# Altium integrated library TI Power Management Power Modules.IntLib: 831 symbols (part 40 of 44)
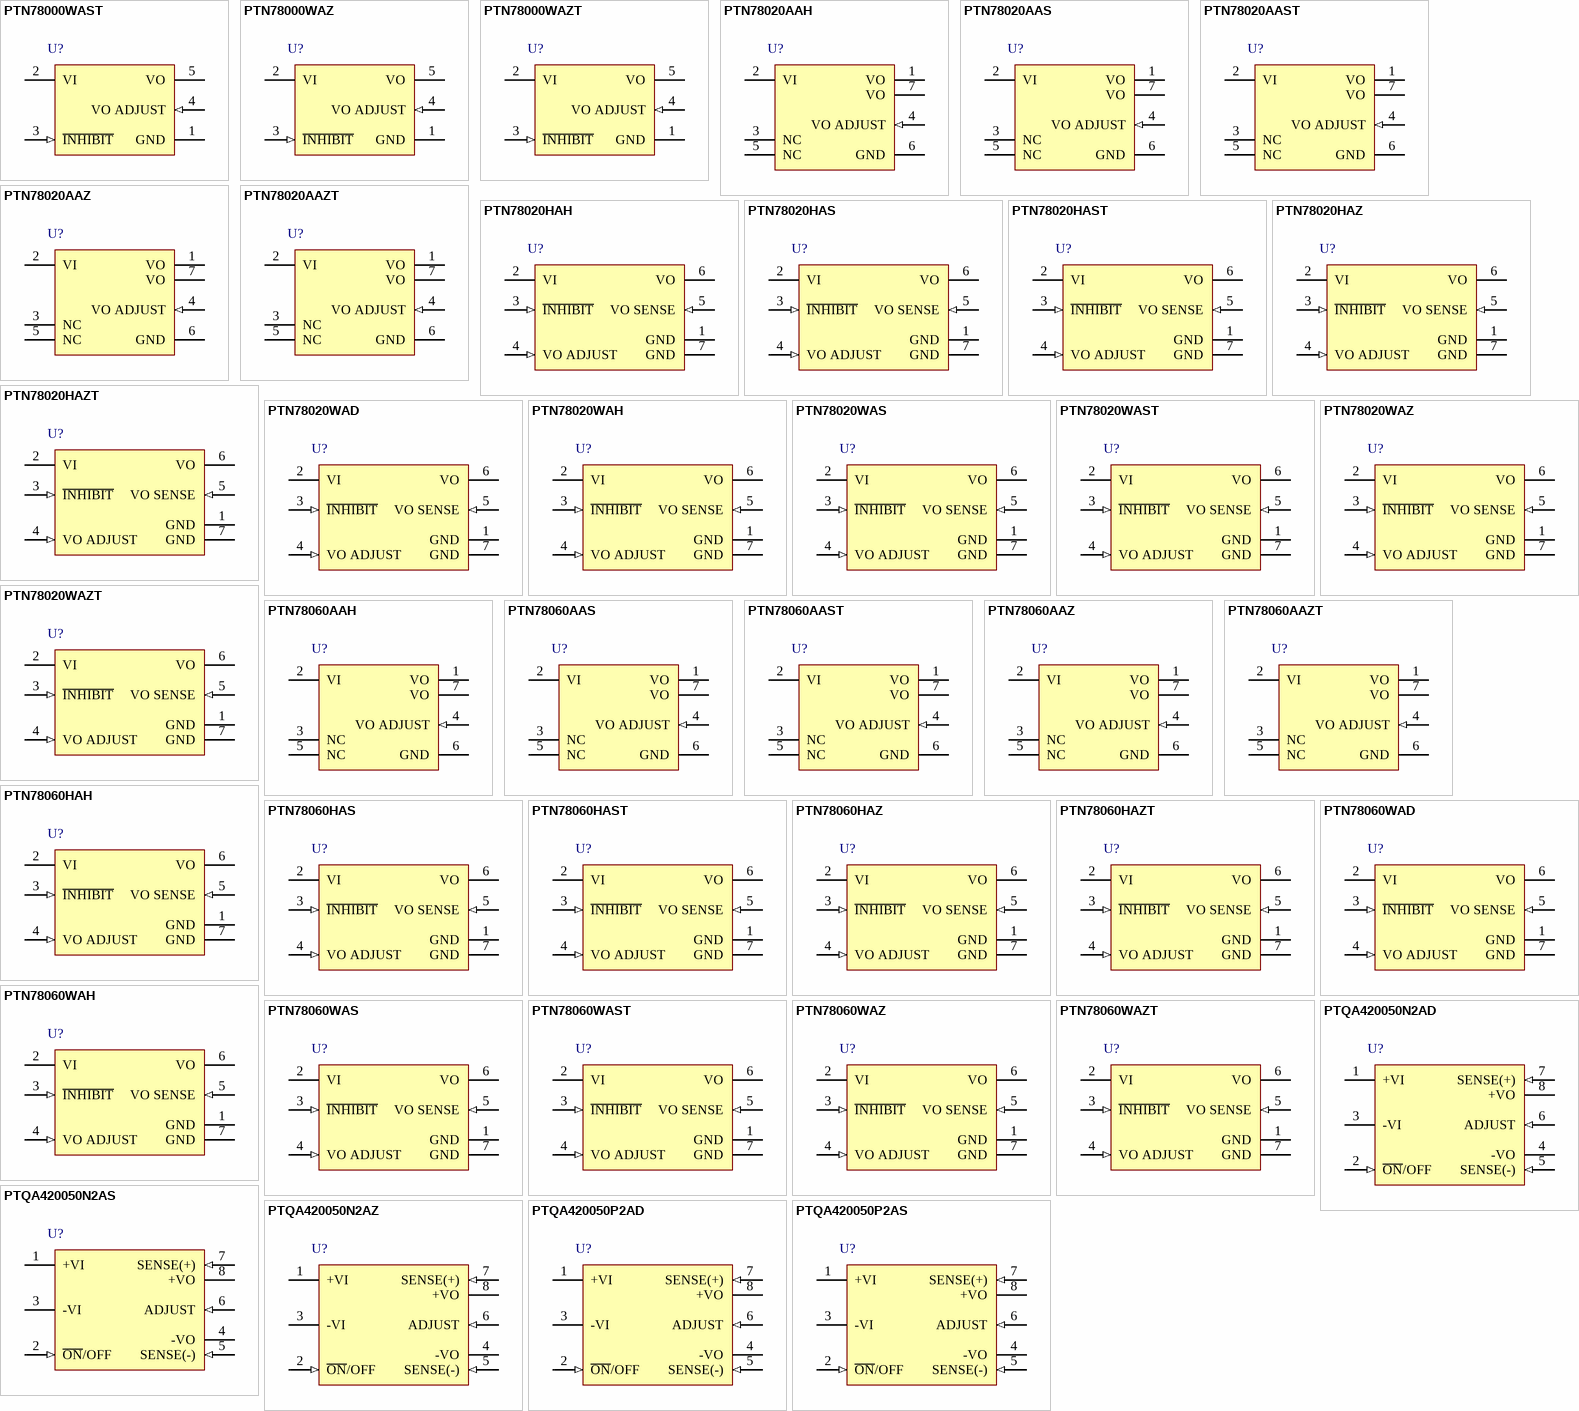
[diagram p62: symbols PTN78000WAST to PTQA420050P2AS]

## PTN78000WAZT
designator U?
1.5 A, Wide-Input Adjustable Switching Regulator, -40 to 85 degC, 5-pin Module (EUT5), Pb-Free (RoHS); Manufacturer: Texas Instruments; PartNumber: PTN78000WAZT; Iout(Max)(A): 1.5; Regulated Outputs(#): 1; SubFamily: Non-Isolated POL; Vin(Max)(V): 36; Vin(Min)(V): 7; VO Adjustable: TRUE; Vout(Max)(V): 12.6; Vout(Min)(V): 2.5; DatasheetVersion: SLTS230C; PackageVersion: 4204991-2/C; PackageReference: EUT5; PackageDescription: 5-Pin Plastic Special Shape, Body 12.57 x 18.92 mm; Supplier 1: Digi-Key; Supplier Part Number 1: 296-32210-2-ND; Supplier 2: Digi-Key; Supplier Part Number 2: 296-32210-1-ND; Supplier 3: Digi-Key; Supplier Part Number 3: 296-32210-6-ND; Supplier 4: Newark; Supplier Part Number 4: 37K0763; Supplier 5: Mouser; Supplier Part Number 5: 595-PTN78000WAZT; Eco-Plan: Pb-Free (RoHS); Mounting Technology: Surface Mount; ComponentLink1Description: Manufacturer URL; ComponentLink1URL: http://www.ti.com/; ComponentLink2Description: Datasheet; ComponentLink2URL: http://www.ti.com/general/docs/lit/getliterature.tsp?genericPartNumber=PTN78000W&fileType=pdf; ComponentLink3Description: Package Specification; ComponentLink3URL: http://www.ti.com/lit/ml/mpds140b/mpds140b.pdf; ComponentLink4Description: URL Link1; ComponentLink4URL: Samples URL:http://www.ti.com/product/ptn78000w#samples
footprint TI-EUT5_V (Module, 5-Leads, Body 18.92x12.57 mm)
pins: 1 GND (power) "This is the common ground connection for the VI and VO power connections. It is also the 0 Vdc reference for the Inhibit and VO Adjust control inputs.", 2 VI (power) "The positive input voltage power node to the module, which is referenced to common GND.", 3 ~{INHIBIT} (in) "The Inhibit pin is an open-collector/drain active-low input that is referenced to GND. Applying a low-level ground signal to this input disables the module's output and turns off the output voltage. When the Inhibit control (See Datasheet)", 4 VO ADJUST (in) "A 1% resistor must be connected between this pin and GND (pin 1) to set the output voltage. If left open-circuit, the output voltage defaults to its minimum adjust value. The temperature stability of the resistor should be (See Datasheet)", 5 VO (power) "The regulated positive power output with respect to the GND node."

## PTN78020AAH
designator U?
4 A, Wide Input, Non-Isolated, Wide Negative Output Adjust Module, -40 to 85 degC, 7-pin Module (EUK7), Pb-Free (RoHS); Manufacturer: Texas Instruments; PartNumber: PTN78020AAH; Iout(Max)(A): 4; Regulated Outputs(#): 1; SubFamily: Non-Isolated POL; Vin(Max)(V): 29; Vin(Min)(V): 9; VO Adjustable: TRUE; Vout(Max)(V): -3; Vout(Min)(V): -15; DatasheetVersion: SLTS244A; PackageVersion: 4204986-2/C; PackageReference: EUK7; PackageDescription: 7-Pin Plastic Special Shape, Body 22.1 x 37.97 mm; Supplier 1: Digi-Key; Supplier Part Number 1: 296-20509-ND; Supplier 2: Newark; Supplier Part Number 2: 31K7224; Supplier 3: Mouser; Supplier Part Number 3: 595-PTN78020AAH; Eco-Plan: Pb-Free (RoHS); Mounting Technology: Through Hole; ComponentLink1Description: Manufacturer URL; ComponentLink1URL: http://www.ti.com/; ComponentLink2Description: Datasheet; ComponentLink2URL: http://www.ti.com/general/docs/lit/getliterature.tsp?genericPartNumber=PTN78020A&fileType=pdf; ComponentLink3Description: Package Specification; ComponentLink3URL: http://www.ti.com/litv/pdf/mpds185; ComponentLink4Description: URL Link1; ComponentLink4URL: Samples URL:http://www.ti.com/product/ptn78020a#samples
footprint TI-EUK7_V (Module, 7-Leads, Body 37.97x22.1mm)
pins: 1 VO (power) "The negative output voltage power connection. It is also the reference for the VO Adjust control input. For proper operation, pins 1 and 7 must be connected.", 2 VI (power) "proper operation, pins 1 and 7 must be connected. The positive input voltage power node to the module, which is referenced to common GND.", 3 NC "This pin is active and must be isolated from any electrical connection.", 4 VO ADJUST (in) "A 1% resistor must be connected between pin 4 and pin 7 to set the output voltage of the module lower than -3 V. If left open-circuit, the output voltage defaults to -3 V. The temperature stability of the resistor should be (See Datasheet)", 5 NC "This pin is active and must be isolated from any electrical connection.", 6 GND (power) "The common ground connection for VI and VO power connections.", 7 VO (power) "The negative output voltage power connection. It is also the reference for the VO Adjust control input. For proper operation, pins 1 and 7 must be connected."

## PTN78020AAS
designator U?
4 A, Wide Input, Non-Isolated, Wide Negative Output Adjust Module, -40 to 85 degC, 7-pin Module (EUL7); Manufacturer: Texas Instruments; PartNumber: PTN78020AAS; Eco-Plan: TBD; Iout(Max)(A): 4; Regulated Outputs(#): 1; SubFamily: Non-Isolated POL; Vin(Max)(V): 29; Vin(Min)(V): 9; VO Adjustable: TRUE; Vout(Max)(V): -3; Vout(Min)(V): -15; DatasheetVersion: SLTS244A; PackageVersion: 4204987-2/C; PackageReference: EUL7; PackageDescription: 7-Pin Plastic Special Shape, Body 22.1 x 37.97 mm; Supplier 1: Digi-Key; Supplier Part Number 1: 296-20510-ND; Supplier 2: Newark; Supplier Part Number 2: 31K7225; Supplier 3: Mouser; Supplier Part Number 3: 595-PTN78020AAS; Mounting Technology: Surface Mount; ComponentLink1Description: Manufacturer URL; ComponentLink1URL: http://www.ti.com/; ComponentLink2Description: Datasheet; ComponentLink2URL: http://www.ti.com/general/docs/lit/getliterature.tsp?genericPartNumber=PTN78020A&fileType=pdf; ComponentLink3Description: Package Specification; ComponentLink3URL: http://www.ti.com/lit/ml/mpds186/mpds186.pdf; ComponentLink4Description: URL Link1; ComponentLink4URL: Samples URL:http://www.ti.com/product/ptn78020a#samples
footprint TI-EUL7_V (Module, 7-Leads, Body 37.97x22.1mm)
pins: 1 VO (power) "The negative output voltage power connection. It is also the reference for the VO Adjust control input. For proper operation, pins 1 and 7 must be connected.", 2 VI (power) "proper operation, pins 1 and 7 must be connected. The positive input voltage power node to the module, which is referenced to common GND.", 3 NC "This pin is active and must be isolated from any electrical connection.", 4 VO ADJUST (in) "A 1% resistor must be connected between pin 4 and pin 7 to set the output voltage of the module lower than -3 V. If left open-circuit, the output voltage defaults to -3 V. The temperature stability of the resistor should be (See Datasheet)", 5 NC "This pin is active and must be isolated from any electrical connection.", 6 GND (power) "The common ground connection for VI and VO power connections.", 7 VO (power) "The negative output voltage power connection. It is also the reference for the VO Adjust control input. For proper operation, pins 1 and 7 must be connected."

## PTN78020AAST
designator U?
4 A, Wide Input, Non-Isolated, Wide Negative Output Adjust Module, -40 to 85 degC, 7-pin Module (EUL7); Manufacturer: Texas Instruments; PartNumber: PTN78020AAST; Eco-Plan: TBD; Iout(Max)(A): 4; Regulated Outputs(#): 1; SubFamily: Non-Isolated POL; Vin(Max)(V): 29; Vin(Min)(V): 9; VO Adjustable: TRUE; Vout(Max)(V): -3; Vout(Min)(V): -15; DatasheetVersion: SLTS244A; PackageVersion: 4204987-2/C; PackageReference: EUL7; PackageDescription: 7-Pin Plastic Special Shape, Body 22.1 x 37.97 mm; Supplier 1: Digi-Key; Supplier Part Number 1: PTN78020AAST-ND; Supplier 2: Newark; Supplier Part Number 2: 31K7226; Supplier 3: Mouser; Supplier Part Number 3: 595-PTN78020AAST; Mounting Technology: Surface Mount; ComponentLink1Description: Manufacturer URL; ComponentLink1URL: http://www.ti.com/; ComponentLink2Description: Datasheet; ComponentLink2URL: http://www.ti.com/general/docs/lit/getliterature.tsp?genericPartNumber=PTN78020A&fileType=pdf; ComponentLink3Description: Package Specification; ComponentLink3URL: http://www.ti.com/lit/ml/mpds186/mpds186.pdf; ComponentLink4Description: URL Link1; ComponentLink4URL: Samples URL:http://www.ti.com/product/ptn78020a#samples
footprint TI-EUL7_V (Module, 7-Leads, Body 37.97x22.1mm)
pins: 1 VO (power) "The negative output voltage power connection. It is also the reference for the VO Adjust control input. For proper operation, pins 1 and 7 must be connected.", 2 VI (power) "proper operation, pins 1 and 7 must be connected. The positive input voltage power node to the module, which is referenced to common GND.", 3 NC "This pin is active and must be isolated from any electrical connection.", 4 VO ADJUST (in) "A 1% resistor must be connected between pin 4 and pin 7 to set the output voltage of the module lower than -3 V. If left open-circuit, the output voltage defaults to -3 V. The temperature stability of the resistor should be (See Datasheet)", 5 NC "This pin is active and must be isolated from any electrical connection.", 6 GND (power) "The common ground connection for VI and VO power connections.", 7 VO (power) "The negative output voltage power connection. It is also the reference for the VO Adjust control input. For proper operation, pins 1 and 7 must be connected."

## PTN78020AAZ
designator U?
4 A, Wide Input, Non-Isolated, Wide Negative Output Adjust Module, -40 to 85 degC, 7-pin Module (EUL7), Pb-Free (RoHS); Manufacturer: Texas Instruments; PartNumber: PTN78020AAZ; Iout(Max)(A): 4; Regulated Outputs(#): 1; SubFamily: Non-Isolated POL; Vin(Max)(V): 29; Vin(Min)(V): 9; VO Adjustable: TRUE; Vout(Max)(V): -3; Vout(Min)(V): -15; DatasheetVersion: SLTS244A; PackageVersion: 4204987-2/C; PackageReference: EUL7; PackageDescription: 7-Pin Plastic Special Shape, Body 22.1 x 37.97 mm; Supplier 1: Digi-Key; Supplier Part Number 1: 296-20511-ND; Supplier 2: Newark; Supplier Part Number 2: 31K7227; Supplier 3: Mouser; Supplier Part Number 3: 595-PTN78020AAZ; Eco-Plan: Pb-Free (RoHS); Mounting Technology: Surface Mount; ComponentLink1Description: Manufacturer URL; ComponentLink1URL: http://www.ti.com/; ComponentLink2Description: Datasheet; ComponentLink2URL: http://www.ti.com/general/docs/lit/getliterature.tsp?genericPartNumber=PTN78020A&fileType=pdf; ComponentLink3Description: Package Specification; ComponentLink3URL: http://www.ti.com/lit/ml/mpds186/mpds186.pdf; ComponentLink4Description: URL Link1; ComponentLink4URL: Samples URL:http://www.ti.com/product/ptn78020a#samples
footprint TI-EUL7_V (Module, 7-Leads, Body 37.97x22.1mm)
pins: 1 VO (power) "The negative output voltage power connection. It is also the reference for the VO Adjust control input. For proper operation, pins 1 and 7 must be connected.", 2 VI (power) "proper operation, pins 1 and 7 must be connected. The positive input voltage power node to the module, which is referenced to common GND.", 3 NC "This pin is active and must be isolated from any electrical connection.", 4 VO ADJUST (in) "A 1% resistor must be connected between pin 4 and pin 7 to set the output voltage of the module lower than -3 V. If left open-circuit, the output voltage defaults to -3 V. The temperature stability of the resistor should be (See Datasheet)", 5 NC "This pin is active and must be isolated from any electrical connection.", 6 GND (power) "The common ground connection for VI and VO power connections.", 7 VO (power) "The negative output voltage power connection. It is also the reference for the VO Adjust control input. For proper operation, pins 1 and 7 must be connected."

## PTN78020AAZT
designator U?
4 A, Wide Input, Non-Isolated, Wide Negative Output Adjust Module, -40 to 85 degC, 7-pin Module (EUL7), Pb-Free (RoHS); Manufacturer: Texas Instruments; PartNumber: PTN78020AAZT; Iout(Max)(A): 4; Regulated Outputs(#): 1; SubFamily: Non-Isolated POL; Vin(Max)(V): 29; Vin(Min)(V): 9; VO Adjustable: TRUE; Vout(Max)(V): -3; Vout(Min)(V): -15; DatasheetVersion: SLTS244A; PackageVersion: 4204987-2/C; PackageReference: EUL7; PackageDescription: 7-Pin Plastic Special Shape, Body 22.1 x 37.97 mm; Supplier 1: Digi-Key; Supplier Part Number 1: PTN78020AAZT-ND; Supplier 2: Newark; Supplier Part Number 2: 31K7228; Supplier 3: Mouser; Supplier Part Number 3: 595-PTN78020AAZT; Eco-Plan: Pb-Free (RoHS); Mounting Technology: Surface Mount; ComponentLink1Description: Manufacturer URL; ComponentLink1URL: http://www.ti.com/; ComponentLink2Description: Datasheet; ComponentLink2URL: http://www.ti.com/general/docs/lit/getliterature.tsp?genericPartNumber=PTN78020A&fileType=pdf; ComponentLink3Description: Package Specification; ComponentLink3URL: http://www.ti.com/lit/ml/mpds186/mpds186.pdf; ComponentLink4Description: URL Link1; ComponentLink4URL: Samples URL:http://www.ti.com/product/ptn78020a#samples
footprint TI-EUL7_V (Module, 7-Leads, Body 37.97x22.1mm)
pins: 1 VO (power) "The negative output voltage power connection. It is also the reference for the VO Adjust control input. For proper operation, pins 1 and 7 must be connected.", 2 VI (power) "proper operation, pins 1 and 7 must be connected. The positive input voltage power node to the module, which is referenced to common GND.", 3 NC "This pin is active and must be isolated from any electrical connection.", 4 VO ADJUST (in) "A 1% resistor must be connected between pin 4 and pin 7 to set the output voltage of the module lower than -3 V. If left open-circuit, the output voltage defaults to -3 V. The temperature stability of the resistor should be (See Datasheet)", 5 NC "This pin is active and must be isolated from any electrical connection.", 6 GND (power) "The common ground connection for VI and VO power connections.", 7 VO (power) "The negative output voltage power connection. It is also the reference for the VO Adjust control input. For proper operation, pins 1 and 7 must be connected."

## PTN78020HAH
designator U?
6 A, Wide Input Non-Isolated, Wide Output Adjust Module, -40 to 85 degC, 7-pin Module (EUK7), Pb-Free (RoHS); Manufacturer: Texas Instruments; PartNumber: PTN78020HAH; Iout(Max)(A): 6; Regulated Outputs(#): 1; SubFamily: Non-Isolated POL; Vin(Max)(V): 36; Vin(Min)(V): 15; VO Adjustable: TRUE; Vout(Max)(V): 22; Vout(Min)(V): 11.85; DatasheetVersion: SLTS228C; PackageVersion: 4204986-2/C; PackageReference: EUK7; PackageDescription: 7-Pin Plastic Special Shape, Body 22.1 x 37.97 mm; Supplier 1: Digi-Key; Supplier Part Number 1: 296-20512-ND; Supplier 2: Newark; Supplier Part Number 2: 33K5372; Supplier 3: Mouser; Supplier Part Number 3: 595-PTN78020HAH; Eco-Plan: Pb-Free (RoHS); Mounting Technology: Through Hole; ComponentLink1Description: Manufacturer URL; ComponentLink1URL: http://www.ti.com/; ComponentLink2Description: Datasheet; ComponentLink2URL: http://www.ti.com/general/docs/lit/getliterature.tsp?genericPartNumber=PTN78020H&fileType=pdf; ComponentLink3Description: Package Specification; ComponentLink3URL: http://www.ti.com/litv/pdf/mpds185; ComponentLink4Description: URL Link1; ComponentLink4URL: Samples URL:http://www.ti.com/product/ptn78020h#samples
footprint TI-EUK7_V (Module, 7-Leads, Body 37.97x22.1mm)
pins: 1 GND (power) "This is the common ground connection for the VI and VO power connections. It is also the 0-VDC reference for the Inhibit and VO Adjust control inputs.", 2 VI (power) "The positive input voltage power node to the module, which is referenced to common GND.", 3 ~{INHIBIT} (in) "The Inhibit pin is an open-collector/drain active-low input that is referenced to GND. Applying a low-level ground signal to this input disables the module's output and turns off the output voltage. When the Inhibit control (See Datasheet)", 4 VO ADJUST (in) "A 1% resistor must be connected between this pin and GND (pin 7) to set the output voltage. If left V open-circuit, the output voltage is set to a default value. The temperature stability of the resistor should be 100 (See Datasheet)", 5 VO SENSE (in) "The sense input allows the regulation circuit to compensate for voltage drop between the module and the load. For optimum voltage accuracy, VO Sense should be connected to VO. If the sense feature is not used, this pin may (See Datasheet)", 6 VO (power) "The regulated positive power output with respect to the GND node.", 7 GND (power) "This is the common ground connection for the VI and VO power connections. It is also the 0-VDC reference for the Inhibit and VO Adjust control inputs."

## PTN78020HAS
designator U?
6 A, Wide Input Non-Isolated, Wide Output Adjust Module, -40 to 85 degC, 7-pin Module (EUL7); Manufacturer: Texas Instruments; PartNumber: PTN78020HAS; Eco-Plan: TBD; Iout(Max)(A): 6; Regulated Outputs(#): 1; SubFamily: Non-Isolated POL; Vin(Max)(V): 36; Vin(Min)(V): 15; VO Adjustable: TRUE; Vout(Max)(V): 22; Vout(Min)(V): 11.85; DatasheetVersion: SLTS228C; PackageVersion: 4204987-2/C; PackageReference: EUL7; PackageDescription: 7-Pin Plastic Special Shape, Body 22.1 x 37.97 mm; Supplier 1: Digi-Key; Supplier Part Number 1: 296-20513-ND; Supplier 2: Newark; Supplier Part Number 2: 33K5373; Supplier 3: Mouser; Supplier Part Number 3: 595-PTN78020HAS; Mounting Technology: Surface Mount; ComponentLink1Description: Manufacturer URL; ComponentLink1URL: http://www.ti.com/; ComponentLink2Description: Datasheet; ComponentLink2URL: http://www.ti.com/general/docs/lit/getliterature.tsp?genericPartNumber=PTN78020H&fileType=pdf; ComponentLink3Description: Package Specification; ComponentLink3URL: http://www.ti.com/lit/ml/mpds186/mpds186.pdf; ComponentLink4Description: URL Link1; ComponentLink4URL: Samples URL:http://www.ti.com/product/ptn78020h#samples
footprint TI-EUL7_V (Module, 7-Leads, Body 37.97x22.1mm)
pins: 1 GND (power) "This is the common ground connection for the VI and VO power connections. It is also the 0-VDC reference for the Inhibit and VO Adjust control inputs.", 2 VI (power) "The positive input voltage power node to the module, which is referenced to common GND.", 3 ~{INHIBIT} (in) "The Inhibit pin is an open-collector/drain active-low input that is referenced to GND. Applying a low-level ground signal to this input disables the module's output and turns off the output voltage. When the Inhibit control (See Datasheet)", 4 VO ADJUST (in) "A 1% resistor must be connected between this pin and GND (pin 7) to set the output voltage. If left V open-circuit, the output voltage is set to a default value. The temperature stability of the resistor should be 100 (See Datasheet)", 5 VO SENSE (in) "The sense input allows the regulation circuit to compensate for voltage drop between the module and the load. For optimum voltage accuracy, VO Sense should be connected to VO. If the sense feature is not used, this pin may (See Datasheet)", 6 VO (power) "The regulated positive power output with respect to the GND node.", 7 GND (power) "This is the common ground connection for the VI and VO power connections. It is also the 0-VDC reference for the Inhibit and VO Adjust control inputs."

## PTN78020HAST
designator U?
6 A, Wide Input Non-Isolated, Wide Output Adjust Module, -40 to 85 degC, 7-pin Module (EUL7); Manufacturer: Texas Instruments; PartNumber: PTN78020HAST; Eco-Plan: TBD; Iout(Max)(A): 6; Regulated Outputs(#): 1; SubFamily: Non-Isolated POL; Vin(Max)(V): 36; Vin(Min)(V): 15; VO Adjustable: TRUE; Vout(Max)(V): 22; Vout(Min)(V): 11.85; DatasheetVersion: SLTS228C; PackageVersion: 4204987-2/C; PackageReference: EUL7; PackageDescription: 7-Pin Plastic Special Shape, Body 22.1 x 37.97 mm; Supplier 1: Digi-Key; Supplier Part Number 1: PTN78020HAST-ND; Supplier 2: Mouser; Supplier Part Number 2: 595-PTN78020HAST; Mounting Technology: Surface Mount; ComponentLink1Description: Manufacturer URL; ComponentLink1URL: http://www.ti.com/; ComponentLink2Description: Datasheet; ComponentLink2URL: http://www.ti.com/general/docs/lit/getliterature.tsp?genericPartNumber=PTN78020H&fileType=pdf; ComponentLink3Description: Package Specification; ComponentLink3URL: http://www.ti.com/lit/ml/mpds186/mpds186.pdf; ComponentLink4Description: URL Link1; ComponentLink4URL: Samples URL:http://www.ti.com/product/ptn78020h#samples
footprint TI-EUL7_V (Module, 7-Leads, Body 37.97x22.1mm)
pins: 1 GND (power) "This is the common ground connection for the VI and VO power connections. It is also the 0-VDC reference for the Inhibit and VO Adjust control inputs.", 2 VI (power) "The positive input voltage power node to the module, which is referenced to common GND.", 3 ~{INHIBIT} (in) "The Inhibit pin is an open-collector/drain active-low input that is referenced to GND. Applying a low-level ground signal to this input disables the module's output and turns off the output voltage. When the Inhibit control (See Datasheet)", 4 VO ADJUST (in) "A 1% resistor must be connected between this pin and GND (pin 7) to set the output voltage. If left V open-circuit, the output voltage is set to a default value. The temperature stability of the resistor should be 100 (See Datasheet)", 5 VO SENSE (in) "The sense input allows the regulation circuit to compensate for voltage drop between the module and the load. For optimum voltage accuracy, VO Sense should be connected to VO. If the sense feature is not used, this pin may (See Datasheet)", 6 VO (power) "The regulated positive power output with respect to the GND node.", 7 GND (power) "This is the common ground connection for the VI and VO power connections. It is also the 0-VDC reference for the Inhibit and VO Adjust control inputs."

## PTN78020HAZ
designator U?
6 A, Wide Input Non-Isolated, Wide Output Adjust Module, -40 to 85 degC, 7-pin Module (EUL7), Pb-Free (RoHS); Manufacturer: Texas Instruments; PartNumber: PTN78020HAZ; Iout(Max)(A): 6; Regulated Outputs(#): 1; SubFamily: Non-Isolated POL; Vin(Max)(V): 36; Vin(Min)(V): 15; VO Adjustable: TRUE; Vout(Max)(V): 22; Vout(Min)(V): 11.85; DatasheetVersion: SLTS228C; PackageVersion: 4204987-2/C; PackageReference: EUL7; PackageDescription: 7-Pin Plastic Special Shape, Body 22.1 x 37.97 mm; Supplier 1: Digi-Key; Supplier Part Number 1: 296-20514-ND; Supplier 2: Farnell; Supplier Part Number 2: 1109715; Supplier 3: Newark; Supplier Part Number 3: 92K8250; Supplier 4: Newark; Supplier Part Number 4: 33K5375; Supplier 5: Mouser; Supplier Part Number 5: 595-PTN78020HAZ; Eco-Plan: Pb-Free (RoHS); Mounting Technology: Surface Mount; ComponentLink1Description: Manufacturer URL; ComponentLink1URL: http://www.ti.com/; ComponentLink2Description: Datasheet; ComponentLink2URL: http://www.ti.com/general/docs/lit/getliterature.tsp?genericPartNumber=PTN78020H&fileType=pdf; ComponentLink3Description: Package Specification; ComponentLink3URL: http://www.ti.com/lit/ml/mpds186/mpds186.pdf; ComponentLink4Description: URL Link1; ComponentLink4URL: Samples URL:http://www.ti.com/product/ptn78020h#samples
footprint TI-EUL7_V (Module, 7-Leads, Body 37.97x22.1mm)
pins: 1 GND (power) "This is the common ground connection for the VI and VO power connections. It is also the 0-VDC reference for the Inhibit and VO Adjust control inputs.", 2 VI (power) "The positive input voltage power node to the module, which is referenced to common GND.", 3 ~{INHIBIT} (in) "The Inhibit pin is an open-collector/drain active-low input that is referenced to GND. Applying a low-level ground signal to this input disables the module's output and turns off the output voltage. When the Inhibit control (See Datasheet)", 4 VO ADJUST (in) "A 1% resistor must be connected between this pin and GND (pin 7) to set the output voltage. If left V open-circuit, the output voltage is set to a default value. The temperature stability of the resistor should be 100 (See Datasheet)", 5 VO SENSE (in) "The sense input allows the regulation circuit to compensate for voltage drop between the module and the load. For optimum voltage accuracy, VO Sense should be connected to VO. If the sense feature is not used, this pin may (See Datasheet)", 6 VO (power) "The regulated positive power output with respect to the GND node.", 7 GND (power) "This is the common ground connection for the VI and VO power connections. It is also the 0-VDC reference for the Inhibit and VO Adjust control inputs."

## PTN78020HAZT
designator U?
6 A, Wide Input Non-Isolated, Wide Output Adjust Module, -40 to 85 degC, 7-pin Module (EUL7), Pb-Free (RoHS); Manufacturer: Texas Instruments; PartNumber: PTN78020HAZT; Iout(Max)(A): 6; Regulated Outputs(#): 1; SubFamily: Non-Isolated POL; Vin(Max)(V): 36; Vin(Min)(V): 15; VO Adjustable: TRUE; Vout(Max)(V): 22; Vout(Min)(V): 11.85; DatasheetVersion: SLTS228C; PackageVersion: 4204987-2/C; PackageReference: EUL7; PackageDescription: 7-Pin Plastic Special Shape, Body 22.1 x 37.97 mm; Supplier 1: Digi-Key; Supplier Part Number 1: PTN78020HAZT-ND; Supplier 2: Mouser; Supplier Part Number 2: 595-PTN78020HAZT; Eco-Plan: Pb-Free (RoHS); Mounting Technology: Surface Mount; ComponentLink1Description: Manufacturer URL; ComponentLink1URL: http://www.ti.com/; ComponentLink2Description: Datasheet; ComponentLink2URL: http://www.ti.com/general/docs/lit/getliterature.tsp?genericPartNumber=PTN78020H&fileType=pdf; ComponentLink3Description: Package Specification; ComponentLink3URL: http://www.ti.com/lit/ml/mpds186/mpds186.pdf; ComponentLink4Description: URL Link1; ComponentLink4URL: Samples URL:http://www.ti.com/product/ptn78020h#samples
footprint TI-EUL7_V (Module, 7-Leads, Body 37.97x22.1mm)
pins: 1 GND (power) "This is the common ground connection for the VI and VO power connections. It is also the 0-VDC reference for the Inhibit and VO Adjust control inputs.", 2 VI (power) "The positive input voltage power node to the module, which is referenced to common GND.", 3 ~{INHIBIT} (in) "The Inhibit pin is an open-collector/drain active-low input that is referenced to GND. Applying a low-level ground signal to this input disables the module's output and turns off the output voltage. When the Inhibit control (See Datasheet)", 4 VO ADJUST (in) "A 1% resistor must be connected between this pin and GND (pin 7) to set the output voltage. If left V open-circuit, the output voltage is set to a default value. The temperature stability of the resistor should be 100 (See Datasheet)", 5 VO SENSE (in) "The sense input allows the regulation circuit to compensate for voltage drop between the module and the load. For optimum voltage accuracy, VO Sense should be connected to VO. If the sense feature is not used, this pin may (See Datasheet)", 6 VO (power) "The regulated positive power output with respect to the GND node.", 7 GND (power) "This is the common ground connection for the VI and VO power connections. It is also the 0-VDC reference for the Inhibit and VO Adjust control inputs."

## PTN78020WAD
designator U?
6 A Wide-Input Voltage Adjustable Switching Regulator, -40 to 85 degC, 7-pin Module (EUK7), Pb-Free (RoHS); Manufacturer: Texas Instruments; PartNumber: PTN78020WAD; Iout(Max)(A): 6; Regulated Outputs(#): 1; SubFamily: Non-Isolated POL; Vin(Max)(V): 36; Vin(Min)(V): 7; VO Adjustable: TRUE; Vout(Max)(V): 12.6; Vout(Min)(V): 2.5; DatasheetVersion: SLTS228C; PackageVersion: 4204986-2/C; PackageReference: EUK7; PackageDescription: 7-Pin Plastic Special Shape, Body 22.1 x 37.97 mm; Supplier 1: Digi-Key; Supplier Part Number 1: 296-32722-ND; Supplier 2: Farnell; Supplier Part Number 2: 1109710; Supplier 3: Newark; Supplier Part Number 3: 92K8251; Supplier 4: Newark; Supplier Part Number 4: 58K6015; Supplier 5: Mouser; Supplier Part Number 5: 595-PTN78020WAD; Eco-Plan: Pb-Free (RoHS); Mounting Technology: Through Hole; ComponentLink1Description: Manufacturer URL; ComponentLink1URL: http://www.ti.com/; ComponentLink2Description: Datasheet; ComponentLink2URL: http://www.ti.com/general/docs/lit/getliterature.tsp?genericPartNumber=PTN78020W&fileType=pdf; ComponentLink3Description: Package Specification; ComponentLink3URL: http://www.ti.com/litv/pdf/mpds185; ComponentLink4Description: URL Link1; ComponentLink4URL: Samples URL:http://www.ti.com/product/ptn78020w#samples
footprint TI-EUK7_V (Module, 7-Leads, Body 37.97x22.1mm)
pins: 1 GND (power) "This is the common ground connection for the VI and VO power connections. It is also the 0-VDC reference for the Inhibit and VO Adjust control inputs.", 2 VI (power) "The positive input voltage power node to the module, which is referenced to common GND.", 3 ~{INHIBIT} (in) "The Inhibit pin is an open-collector/drain active-low input that is referenced to GND. Applying a low-level ground signal to this input disables the module's output and turns off the output voltage. When the Inhibit control (See Datasheet)", 4 VO ADJUST (in) "A 1% resistor must be connected between this pin and GND (pin 7) to set the output voltage. If left V open-circuit, the output voltage is set to a default value. The temperature stability of the resistor should be 100 (See Datasheet)", 5 VO SENSE (in) "The sense input allows the regulation circuit to compensate for voltage drop between the module and the load. For optimum voltage accuracy, VO Sense should be connected to VO. If the sense feature is not used, this pin may (See Datasheet)", 6 VO (power) "The regulated positive power output with respect to the GND node.", 7 GND (power) "This is the common ground connection for the VI and VO power connections. It is also the 0-VDC reference for the Inhibit and VO Adjust control inputs."

## PTN78020WAH
designator U?
6 A Wide-Input Voltage Adjustable Switching Regulator, -40 to 85 degC, 7-pin Module (EUK7), Pb-Free (RoHS); Manufacturer: Texas Instruments; PartNumber: PTN78020WAH; Iout(Max)(A): 6; Regulated Outputs(#): 1; SubFamily: Non-Isolated POL; Vin(Max)(V): 36; Vin(Min)(V): 7; VO Adjustable: TRUE; Vout(Max)(V): 12.6; Vout(Min)(V): 2.5; DatasheetVersion: SLTS228C; PackageVersion: 4204986-2/C; PackageReference: EUK7; PackageDescription: 7-Pin Plastic Special Shape, Body 22.1 x 37.97 mm; Supplier 1: Digi-Key; Supplier Part Number 1: 296-20515-ND; Supplier 2: Farnell; Supplier Part Number 2: 1295945; Supplier 3: Newark; Supplier Part Number 3: 73J8281; Supplier 4: Mouser; Supplier Part Number 4: 595-PTN78020WAH; Eco-Plan: Pb-Free (RoHS); Mounting Technology: Through Hole; ComponentLink1Description: Manufacturer URL; ComponentLink1URL: http://www.ti.com/; ComponentLink2Description: Datasheet; ComponentLink2URL: http://www.ti.com/general/docs/lit/getliterature.tsp?genericPartNumber=PTN78020W&fileType=pdf; ComponentLink3Description: Package Specification; ComponentLink3URL: http://www.ti.com/litv/pdf/mpds185; ComponentLink4Description: URL Link1; ComponentLink4URL: Samples URL:http://www.ti.com/product/ptn78020w#samples
footprint TI-EUK7_V (Module, 7-Leads, Body 37.97x22.1mm)
pins: 1 GND (power) "This is the common ground connection for the VI and VO power connections. It is also the 0-VDC reference for the Inhibit and VO Adjust control inputs.", 2 VI (power) "The positive input voltage power node to the module, which is referenced to common GND.", 3 ~{INHIBIT} (in) "The Inhibit pin is an open-collector/drain active-low input that is referenced to GND. Applying a low-level ground signal to this input disables the module's output and turns off the output voltage. When the Inhibit control (See Datasheet)", 4 VO ADJUST (in) "A 1% resistor must be connected between this pin and GND (pin 7) to set the output voltage. If left V open-circuit, the output voltage is set to a default value. The temperature stability of the resistor should be 100 (See Datasheet)", 5 VO SENSE (in) "The sense input allows the regulation circuit to compensate for voltage drop between the module and the load. For optimum voltage accuracy, VO Sense should be connected to VO. If the sense feature is not used, this pin may (See Datasheet)", 6 VO (power) "The regulated positive power output with respect to the GND node.", 7 GND (power) "This is the common ground connection for the VI and VO power connections. It is also the 0-VDC reference for the Inhibit and VO Adjust control inputs."

## PTN78020WAS
designator U?
6 A Wide-Input Voltage Adjustable Switching Regulator, -40 to 85 degC, 7-pin Module (EUL7); Manufacturer: Texas Instruments; PartNumber: PTN78020WAS; Eco-Plan: TBD; Iout(Max)(A): 6; Regulated Outputs(#): 1; SubFamily: Non-Isolated POL; Vin(Max)(V): 36; Vin(Min)(V): 7; VO Adjustable: TRUE; Vout(Max)(V): 12.6; Vout(Min)(V): 2.5; DatasheetVersion: SLTS228C; PackageVersion: 4204987-2/C; PackageReference: EUL7; PackageDescription: 7-Pin Plastic Special Shape, Body 22.1 x 37.97 mm; Supplier 1: Digi-Key; Supplier Part Number 1: 296-20516-ND; Supplier 2: Newark; Supplier Part Number 2: 73J8282; Supplier 3: Mouser; Supplier Part Number 3: 595-PTN78020WAS; Mounting Technology: Surface Mount; ComponentLink1Description: Manufacturer URL; ComponentLink1URL: http://www.ti.com/; ComponentLink2Description: Datasheet; ComponentLink2URL: http://www.ti.com/general/docs/lit/getliterature.tsp?genericPartNumber=PTN78020W&fileType=pdf; ComponentLink3Description: Package Specification; ComponentLink3URL: http://www.ti.com/lit/ml/mpds186/mpds186.pdf; ComponentLink4Description: URL Link1; ComponentLink4URL: Samples URL:http://www.ti.com/product/ptn78020w#samples
footprint TI-EUL7_V (Module, 7-Leads, Body 37.97x22.1mm)
pins: 1 GND (power) "This is the common ground connection for the VI and VO power connections. It is also the 0-VDC reference for the Inhibit and VO Adjust control inputs.", 2 VI (power) "The positive input voltage power node to the module, which is referenced to common GND.", 3 ~{INHIBIT} (in) "The Inhibit pin is an open-collector/drain active-low input that is referenced to GND. Applying a low-level ground signal to this input disables the module's output and turns off the output voltage. When the Inhibit control (See Datasheet)", 4 VO ADJUST (in) "A 1% resistor must be connected between this pin and GND (pin 7) to set the output voltage. If left V open-circuit, the output voltage is set to a default value. The temperature stability of the resistor should be 100 (See Datasheet)", 5 VO SENSE (in) "The sense input allows the regulation circuit to compensate for voltage drop between the module and the load. For optimum voltage accuracy, VO Sense should be connected to VO. If the sense feature is not used, this pin may (See Datasheet)", 6 VO (power) "The regulated positive power output with respect to the GND node.", 7 GND (power) "This is the common ground connection for the VI and VO power connections. It is also the 0-VDC reference for the Inhibit and VO Adjust control inputs."

## PTN78020WAST
designator U?
6 A Wide-Input Voltage Adjustable Switching Regulator, -40 to 85 degC, 7-pin Module (EUL7); Manufacturer: Texas Instruments; PartNumber: PTN78020WAST; Eco-Plan: TBD; Iout(Max)(A): 6; Regulated Outputs(#): 1; SubFamily: Non-Isolated POL; Vin(Max)(V): 36; Vin(Min)(V): 7; VO Adjustable: TRUE; Vout(Max)(V): 12.6; Vout(Min)(V): 2.5; DatasheetVersion: SLTS228C; PackageVersion: 4204987-2/C; PackageReference: EUL7; PackageDescription: 7-Pin Plastic Special Shape, Body 22.1 x 37.97 mm; Supplier 1: Digi-Key; Supplier Part Number 1: PTN78020WAST-ND; Supplier 2: Mouser; Supplier Part Number 2: 595-PTN78020WAST; Mounting Technology: Surface Mount; ComponentLink1Description: Manufacturer URL; ComponentLink1URL: http://www.ti.com/; ComponentLink2Description: Datasheet; ComponentLink2URL: http://www.ti.com/general/docs/lit/getliterature.tsp?genericPartNumber=PTN78020W&fileType=pdf; ComponentLink3Description: Package Specification; ComponentLink3URL: http://www.ti.com/lit/ml/mpds186/mpds186.pdf; ComponentLink4Description: URL Link1; ComponentLink4URL: Samples URL:http://www.ti.com/product/ptn78020w#samples
footprint TI-EUL7_V (Module, 7-Leads, Body 37.97x22.1mm)
pins: 1 GND (power) "This is the common ground connection for the VI and VO power connections. It is also the 0-VDC reference for the Inhibit and VO Adjust control inputs.", 2 VI (power) "The positive input voltage power node to the module, which is referenced to common GND.", 3 ~{INHIBIT} (in) "The Inhibit pin is an open-collector/drain active-low input that is referenced to GND. Applying a low-level ground signal to this input disables the module's output and turns off the output voltage. When the Inhibit control (See Datasheet)", 4 VO ADJUST (in) "A 1% resistor must be connected between this pin and GND (pin 7) to set the output voltage. If left V open-circuit, the output voltage is set to a default value. The temperature stability of the resistor should be 100 (See Datasheet)", 5 VO SENSE (in) "The sense input allows the regulation circuit to compensate for voltage drop between the module and the load. For optimum voltage accuracy, VO Sense should be connected to VO. If the sense feature is not used, this pin may (See Datasheet)", 6 VO (power) "The regulated positive power output with respect to the GND node.", 7 GND (power) "This is the common ground connection for the VI and VO power connections. It is also the 0-VDC reference for the Inhibit and VO Adjust control inputs."

## PTN78020WAZ
designator U?
6 A Wide-Input Voltage Adjustable Switching Regulator, -40 to 85 degC, 7-pin Module (EUL7), Pb-Free (RoHS); Manufacturer: Texas Instruments; PartNumber: PTN78020WAZ; Iout(Max)(A): 6; Regulated Outputs(#): 1; SubFamily: Non-Isolated POL; Vin(Max)(V): 36; Vin(Min)(V): 7; VO Adjustable: TRUE; Vout(Max)(V): 12.6; Vout(Min)(V): 2.5; DatasheetVersion: SLTS228C; PackageVersion: 4204987-2/C; PackageReference: EUL7; PackageDescription: 7-Pin Plastic Special Shape, Body 22.1 x 37.97 mm; Supplier 1: Digi-Key; Supplier Part Number 1: 296-20517-ND; Supplier 2: Farnell; Supplier Part Number 2: 1109711; Supplier 3: Farnell; Supplier Part Number 3: 2127445; Supplier 4: Newark; Supplier Part Number 4: 37K0764; Supplier 5: Mouser; Supplier Part Number 5: 595-PTN78020WAZ; Eco-Plan: Pb-Free (RoHS); Mounting Technology: Surface Mount; ComponentLink1Description: Manufacturer URL; ComponentLink1URL: http://www.ti.com/; ComponentLink2Description: Datasheet; ComponentLink2URL: http://www.ti.com/general/docs/lit/getliterature.tsp?genericPartNumber=PTN78020W&fileType=pdf; ComponentLink3Description: Package Specification; ComponentLink3URL: http://www.ti.com/lit/ml/mpds186/mpds186.pdf; ComponentLink4Description: URL Link1; ComponentLink4URL: Samples URL:http://www.ti.com/product/ptn78020w#samples
footprint TI-EUL7_V (Module, 7-Leads, Body 37.97x22.1mm)
pins: 1 GND (power) "This is the common ground connection for the VI and VO power connections. It is also the 0-VDC reference for the Inhibit and VO Adjust control inputs.", 2 VI (power) "The positive input voltage power node to the module, which is referenced to common GND.", 3 ~{INHIBIT} (in) "The Inhibit pin is an open-collector/drain active-low input that is referenced to GND. Applying a low-level ground signal to this input disables the module's output and turns off the output voltage. When the Inhibit control (See Datasheet)", 4 VO ADJUST (in) "A 1% resistor must be connected between this pin and GND (pin 7) to set the output voltage. If left V open-circuit, the output voltage is set to a default value. The temperature stability of the resistor should be 100 (See Datasheet)", 5 VO SENSE (in) "The sense input allows the regulation circuit to compensate for voltage drop between the module and the load. For optimum voltage accuracy, VO Sense should be connected to VO. If the sense feature is not used, this pin may (See Datasheet)", 6 VO (power) "The regulated positive power output with respect to the GND node.", 7 GND (power) "This is the common ground connection for the VI and VO power connections. It is also the 0-VDC reference for the Inhibit and VO Adjust control inputs."

## PTN78020WAZT
designator U?
6 A Wide-Input Voltage Adjustable Switching Regulator, -40 to 85 degC, 7-pin Module (EUL7), Pb-Free (RoHS); Manufacturer: Texas Instruments; PartNumber: PTN78020WAZT; Iout(Max)(A): 6; Regulated Outputs(#): 1; SubFamily: Non-Isolated POL; Vin(Max)(V): 36; Vin(Min)(V): 7; VO Adjustable: TRUE; Vout(Max)(V): 12.6; Vout(Min)(V): 2.5; DatasheetVersion: SLTS228C; PackageVersion: 4204987-2/C; PackageReference: EUL7; PackageDescription: 7-Pin Plastic Special Shape, Body 22.1 x 37.97 mm; Supplier 1: Digi-Key; Supplier Part Number 1: PTN78020WAZT-ND; Supplier 2: Newark; Supplier Part Number 2: 37K0765; Supplier 3: Mouser; Supplier Part Number 3: 595-PTN78020WAZT; Eco-Plan: Pb-Free (RoHS); Mounting Technology: Surface Mount; ComponentLink1Description: Manufacturer URL; ComponentLink1URL: http://www.ti.com/; ComponentLink2Description: Datasheet; ComponentLink2URL: http://www.ti.com/general/docs/lit/getliterature.tsp?genericPartNumber=PTN78020W&fileType=pdf; ComponentLink3Description: Package Specification; ComponentLink3URL: http://www.ti.com/lit/ml/mpds186/mpds186.pdf; ComponentLink4Description: URL Link1; ComponentLink4URL: Samples URL:http://www.ti.com/product/ptn78020w#samples
footprint TI-EUL7_V (Module, 7-Leads, Body 37.97x22.1mm)
pins: 1 GND (power) "This is the common ground connection for the VI and VO power connections. It is also the 0-VDC reference for the Inhibit and VO Adjust control inputs.", 2 VI (power) "The positive input voltage power node to the module, which is referenced to common GND.", 3 ~{INHIBIT} (in) "The Inhibit pin is an open-collector/drain active-low input that is referenced to GND. Applying a low-level ground signal to this input disables the module's output and turns off the output voltage. When the Inhibit control (See Datasheet)", 4 VO ADJUST (in) "A 1% resistor must be connected between this pin and GND (pin 7) to set the output voltage. If left V open-circuit, the output voltage is set to a default value. The temperature stability of the resistor should be 100 (See Datasheet)", 5 VO SENSE (in) "The sense input allows the regulation circuit to compensate for voltage drop between the module and the load. For optimum voltage accuracy, VO Sense should be connected to VO. If the sense feature is not used, this pin may (See Datasheet)", 6 VO (power) "The regulated positive power output with respect to the GND node.", 7 GND (power) "This is the common ground connection for the VI and VO power connections. It is also the 0-VDC reference for the Inhibit and VO Adjust control inputs."

## PTN78060AAH
designator U?
3 A, Wide Input Non-Isolated, Wide Negative Output Adjust Module, -40 to 85 degC, 7-pin Module (EUW7), Pb-Free (RoHS); Manufacturer: Texas Instruments; PartNumber: PTN78060AAH; Iout(Max)(A): 3; Regulated Outputs(#): 1; SubFamily: Non-Isolated POL; Vin(Max)(V): 29; Vin(Min)(V): 9; VO Adjustable: TRUE; Vout(Max)(V): -3; Vout(Min)(V): -15; DatasheetVersion: SLTS245B; PackageVersion: 4205248-2/B; PackageReference: EUW7; PackageDescription: 7-Pin Plastic Special Shape, Body 15.75 x 25.27 mm; Supplier 1: Digi-Key; Supplier Part Number 1: 296-20518-ND; Supplier 2: Newark; Supplier Part Number 2: 28K3823; Supplier 3: Mouser; Supplier Part Number 3: 595-PTN78060AAH; Eco-Plan: Pb-Free (RoHS); Mounting Technology: Through Hole; ComponentLink1Description: Manufacturer URL; ComponentLink1URL: http://www.ti.com/; ComponentLink2Description: Datasheet; ComponentLink2URL: http://www.ti.com/general/docs/lit/getliterature.tsp?genericPartNumber=PTN78060A&fileType=pdf; ComponentLink3Description: Package Specification; ComponentLink3URL: http://www.ti.com/litv/pdf/mpds187; ComponentLink4Description: URL Link1; ComponentLink4URL: Samples URL:http://www.ti.com/product/ptn78060a#samples
footprint TI-EUW7_V (Module, 7-Leads, Body 25.27x15.75mm)
pins: 1 VO (power) "The negative output voltage power connection. It is also the reference for the VO Adjust control input. For proper operation, pins 1 and 7 must be connected.", 2 VI (power) "proper operation, pins 1 and 7 must be connected. The positive input voltage power node to the module, which is referenced to common GND.", 3 NC "This pin is active and must be isolated from any electrical connection.", 4 VO ADJUST (in) "A 1% resistor must be connected between pin 4 and pin 7 to set the output voltage of the module lower than -3 V. If left open-circuit, the output voltage defaults to -3 V. The temperature stability of the resistor should be (See Datasheet)", 5 NC "This pin is active and must be isolated from any electrical connection.", 6 GND (power) "The common ground connection for VI and VO power connections.", 7 VO (power) "The negative output voltage power connection. It is also the reference for the VO Adjust control input. For proper operation, pins 1 and 7 must be connected."

## PTN78060AAS
designator U?
3 A, Wide Input Non-Isolated, Wide Negative Output Adjust Module, -40 to 85 degC, 7-pin Module (EUY7); Manufacturer: Texas Instruments; PartNumber: PTN78060AAS; Eco-Plan: TBD; Iout(Max)(A): 3; Regulated Outputs(#): 1; SubFamily: Non-Isolated POL; Vin(Max)(V): 29; Vin(Min)(V): 9; VO Adjustable: TRUE; Vout(Max)(V): -3; Vout(Min)(V): -15; DatasheetVersion: SLTS245B; PackageVersion: 4205249-2/B; PackageReference: EUY7; PackageDescription: 7-Pin Plastic Special Shape, Body 15.75 x 25.27 mm; Supplier 1: Digi-Key; Supplier Part Number 1: 296-20519-ND; Supplier 2: Newark; Supplier Part Number 2: 28K3824; Supplier 3: Mouser; Supplier Part Number 3: 595-PTN78060AAS; Mounting Technology: Surface Mount; ComponentLink1Description: Manufacturer URL; ComponentLink1URL: http://www.ti.com/; ComponentLink2Description: Datasheet; ComponentLink2URL: http://www.ti.com/general/docs/lit/getliterature.tsp?genericPartNumber=PTN78060A&fileType=pdf; ComponentLink3Description: Package Specification; ComponentLink3URL: http://www.ti.com/lit/ml/mpds188/mpds188.pdf; ComponentLink4Description: URL Link1; ComponentLink4URL: Samples URL:http://www.ti.com/product/ptn78060a#samples
footprint TI-EUY7_V (Module, 7-Leads, Body 25.27x15.75mm)
pins: 1 VO (power) "The negative output voltage power connection. It is also the reference for the VO Adjust control input. For proper operation, pins 1 and 7 must be connected.", 2 VI (power) "proper operation, pins 1 and 7 must be connected. The positive input voltage power node to the module, which is referenced to common GND.", 3 NC "This pin is active and must be isolated from any electrical connection.", 4 VO ADJUST (in) "A 1% resistor must be connected between pin 4 and pin 7 to set the output voltage of the module lower than -3 V. If left open-circuit, the output voltage defaults to -3 V. The temperature stability of the resistor should be (See Datasheet)", 5 NC "This pin is active and must be isolated from any electrical connection.", 6 GND (power) "The common ground connection for VI and VO power connections.", 7 VO (power) "The negative output voltage power connection. It is also the reference for the VO Adjust control input. For proper operation, pins 1 and 7 must be connected."

## PTN78060AAST
designator U?
3 A, Wide Input Non-Isolated, Wide Negative Output Adjust Module, -40 to 85 degC, 7-pin Module (EUY7); Manufacturer: Texas Instruments; PartNumber: PTN78060AAST; Eco-Plan: TBD; Iout(Max)(A): 3; Regulated Outputs(#): 1; SubFamily: Non-Isolated POL; Vin(Max)(V): 29; Vin(Min)(V): 9; VO Adjustable: TRUE; Vout(Max)(V): -3; Vout(Min)(V): -15; DatasheetVersion: SLTS245B; PackageVersion: 4205249-2/B; PackageReference: EUY7; PackageDescription: 7-Pin Plastic Special Shape, Body 15.75 x 25.27 mm; Supplier 1: Digi-Key; Supplier Part Number 1: PTN78060AAST-ND; Supplier 2: Newark; Supplier Part Number 2: 28K3825; Supplier 3: Mouser; Supplier Part Number 3: 595-PTN78060AAST; Mounting Technology: Surface Mount; ComponentLink1Description: Manufacturer URL; ComponentLink1URL: http://www.ti.com/; ComponentLink2Description: Datasheet; ComponentLink2URL: http://www.ti.com/general/docs/lit/getliterature.tsp?genericPartNumber=PTN78060A&fileType=pdf; ComponentLink3Description: Package Specification; ComponentLink3URL: http://www.ti.com/lit/ml/mpds188/mpds188.pdf; ComponentLink4Description: URL Link1; ComponentLink4URL: Samples URL:http://www.ti.com/product/ptn78060a#samples
footprint TI-EUY7_V (Module, 7-Leads, Body 25.27x15.75mm)
pins: 1 VO (power) "The negative output voltage power connection. It is also the reference for the VO Adjust control input. For proper operation, pins 1 and 7 must be connected.", 2 VI (power) "proper operation, pins 1 and 7 must be connected. The positive input voltage power node to the module, which is referenced to common GND.", 3 NC "This pin is active and must be isolated from any electrical connection.", 4 VO ADJUST (in) "A 1% resistor must be connected between pin 4 and pin 7 to set the output voltage of the module lower than -3 V. If left open-circuit, the output voltage defaults to -3 V. The temperature stability of the resistor should be (See Datasheet)", 5 NC "This pin is active and must be isolated from any electrical connection.", 6 GND (power) "The common ground connection for VI and VO power connections.", 7 VO (power) "The negative output voltage power connection. It is also the reference for the VO Adjust control input. For proper operation, pins 1 and 7 must be connected."